# Altium footprint library TO254P1524X483-4N.PcbLib: 1 footprints
Each footprint in its own frame and in the unit in brackets; x right, y up, seen from the top. Pads: shape width x height; smd on the part's side, far side on the other; paste and mask are expansions set on the pad; w line width, h text height; cw(c..) or ccw(c..) is an arc to the next point about the centre after c.
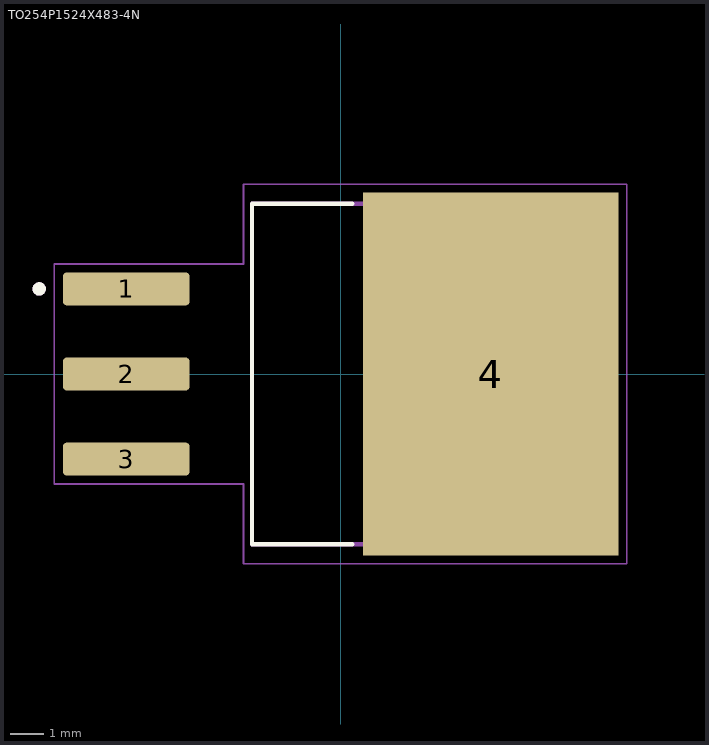
[diagram p0: the footprint, top view; thin cyan lines are the x and y axes]

## TO254P1524X483-4N [mm]
pads (4):
  rrect25% 3.79x0.99 smd: 1(-6.4,2.54) 2(-6.4,0) 3(-6.4,-2.54)
  rect 7.62x10.84 smd paste-6: 4(4.48,0)
Top Overlay:
  circle w0.2: c-9,2.54 r0.1
  lines w0.127: 0.35,-5.08 -2.648,-5.08 -2.648,5.08 0.35,5.08
Top Paste:
  region: 5.205,0.27 3.755,0.27 3.755,1.53 5.205,1.53
  region: 5.205,2.07 3.755,2.07 3.755,3.33 5.205,3.33
  region: 5.205,3.87 3.755,3.87 3.755,5.13 5.205,5.13
  region: 5.205,-1.53 3.755,-1.53 3.755,-0.27 5.205,-0.27
  region: 5.205,-3.33 3.755,-3.33 3.755,-2.07 5.205,-2.07
  region: 5.205,-5.13 3.755,-5.13 3.755,-3.87 5.205,-3.87
  region: 7.745,0.27 6.295,0.27 6.295,1.53 7.745,1.53
  region: 7.745,2.07 6.295,2.07 6.295,3.33 7.745,3.33
  region: 7.745,3.87 6.295,3.87 6.295,5.13 7.745,5.13
  region: 7.745,-1.53 6.295,-1.53 6.295,-0.27 7.745,-0.27
  region: 7.745,-3.33 6.295,-3.33 6.295,-2.07 7.745,-2.07
  region: 7.745,-5.13 6.295,-5.13 6.295,-3.87 7.745,-3.87
  region: 2.665,0.27 1.215,0.27 1.215,1.53 2.665,1.53
  region: 2.665,2.07 1.215,2.07 1.215,3.33 2.665,3.33
  region: 2.665,3.87 1.215,3.87 1.215,5.13 2.665,5.13
  region: 2.665,-1.53 1.215,-1.53 1.215,-0.27 2.665,-0.27
  region: 2.665,-3.33 1.215,-3.33 1.215,-2.07 2.665,-2.07
  region: 2.665,-5.13 1.215,-5.13 1.215,-3.87 2.665,-3.87
Assembly Top:
  circle w0.2: c-9,2.54 r0.1
  lines w0.127: -2.648,-5.08 6.373,-5.08 6.373,5.08 -2.648,5.08 -2.648,-5.08
Courtyard Top:
  lines w0.05: -8.545,-3.285 -8.545,3.285 -2.898,3.285 -2.898,5.67 8.54,5.67 8.54,-5.67 -2.898,-5.67 -2.898,-3.285 -8.545,-3.285
3D body "step_temp.STEP": height 4.83, standoff -0.25, extent -7.62,-5.08 7.62,5.08